# Altium footprint library PCB - LEADED - SOP - ABLIC HSOP6-A.PcbLib: 1 footprints
Each footprint in its own frame and in the unit in brackets; x right, y up, seen from the top. Pads: shape width x height; smd on the part's side, far side on the other; paste and mask are expansions set on the pad; w line width, h text height; cw(c..) or ccw(c..) is an arc to the next point about the centre after c.
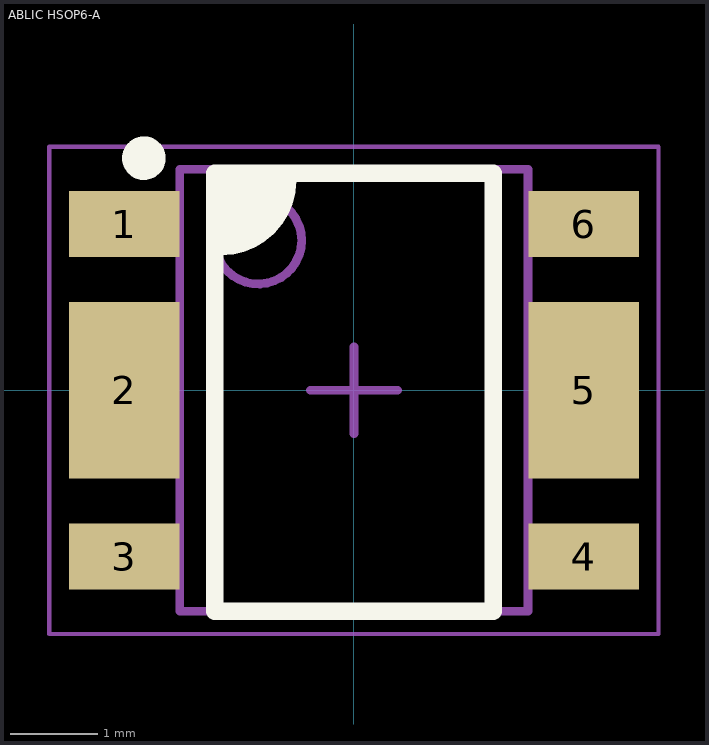
[diagram p0: the footprint, top view; thin cyan lines are the x and y axes]

## ABLIC HSOP6-A [mm] "HSOP, 6-Leads, Body 5.02x3.90mm, Pitch 1.91mm, IPC Medium Density"
height 1.75
pads (6):
  rect 1.27x0.76 smd: 1(-2.64,1.91) 3(-2.64,-1.91) 4(2.642,-1.91) 6(2.642,1.91)
  rect 1.27x2.03 smd: 2(-2.64,0) 5(2.642,0)
Top Overlay:
  circle w0.25: c-2.413,2.667 r0.125
  region: -1.6,2.495 -1.585,2.494 -1.558,2.482 -1.537,2.461 -1.525,2.434 -1.524,2.419 -1.524,1.651 -1.449,1.651 -1.302,1.68 -1.163,1.738 -1.038,1.821 -0.932,1.927 -0.849,2.052 -0.791,2.191 -0.762,2.338 -0.762,2.413
  lines w0.2: -1.524,1.651 ccw(c-1.524,2.413) -0.762,2.413 ; -1.6,-2.54 -1.6,2.495 1.6,2.495 1.6,-2.54 -1.6,-2.54
Mechanical 13:
  circle w0.1: c-1.1,1.722 r0.5
  lines w0.1: -2,-2.54 2,-2.54 2,2.54 -2,2.54 -2,-2.54
Mechanical 15:
  lines w0.05: -3.5,-2.8 3.5,-2.8 3.5,2.8 -3.5,2.8 -3.5,-2.8
Mechanical 2 (Mech9):
  lines w0.1: -0.5,0 0.5,0 ; 0,-0.5 0,0.5
3D body "ABLIC HSOP6-A.step": height 1.75, standoff 0, extent -3.015,-2.51 3.015,2.51